# Altium footprint library MSD_DB01F_12P.PcbLib: 1 footprints
Each footprint in its own frame and in the unit in brackets; x right, y up, seen from the top. Pads: shape width x height; smd on the part's side, far side on the other; paste and mask are expansions set on the pad; w line width, h text height; cw(c..) or ccw(c..) is an arc to the next point about the centre after c.
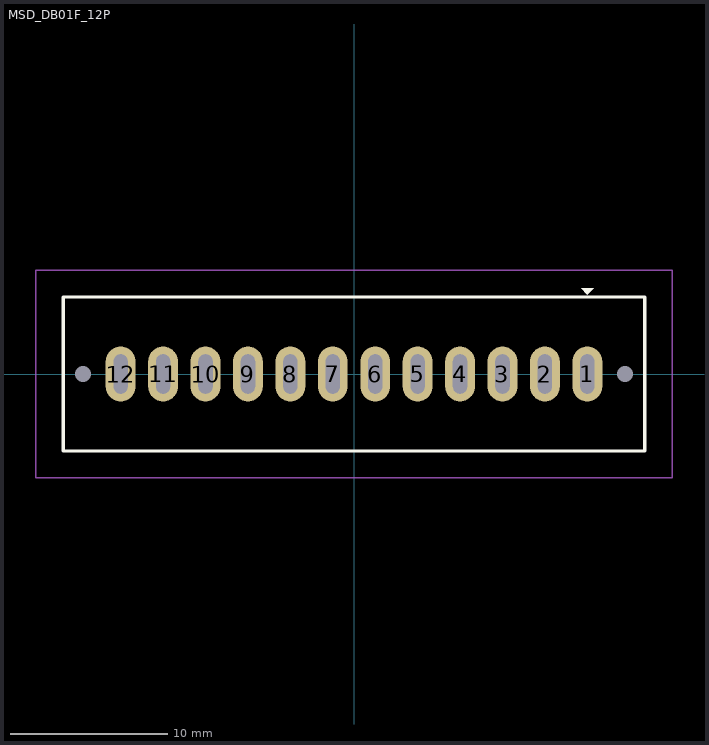
[diagram p0: the footprint, top view; thin cyan lines are the x and y axes]

## MSD_DB01F_12P [mm]
pads (14):
  round 0.1 hole 1 unplated: 0(-17.25,0) 0(17.25,0)
  rrect100% 1.9x3.5 hole 0.9 slot 2.5 at 90 deg mask-0.45: 1(14.85,0) 2(12.15,0) 3(9.45,0) 4(6.75,0) 5(4.05,0) 6(1.35,0) 7(-1.35,0) 8(-4.05,0) 9(-6.75,0) 10(-9.45,0) 11(-12.15,0) 12(-14.85,0)
Top Overlay:
  region: 14.45,5.45 15.25,5.45 14.85,5.05
  lines w0.2: -18.5,-4.9 18.5,-4.9 18.5,4.9 -18.5,4.9 -18.5,-4.9
Top Courtyard:
  lines w0.1: -20.25,-6.6 -20.25,6.6 20.25,6.6 20.25,-6.6 -19.75,-6.6 -20.25,-6.6
3D body "SPCEO0101.STEP": height 6.75, standoff 0.05, extent -19.75,-6.1 19.75,6.1